# Altium footprint library XAL4030-332.PcbLib: 1 footprints
Each footprint in its own frame and in the unit in brackets; x right, y up, seen from the top. Pads: shape width x height; smd on the part's side, far side on the other; paste and mask are expansions set on the pad; w line width, h text height; cw(c..) or ccw(c..) is an arc to the next point about the centre after c.
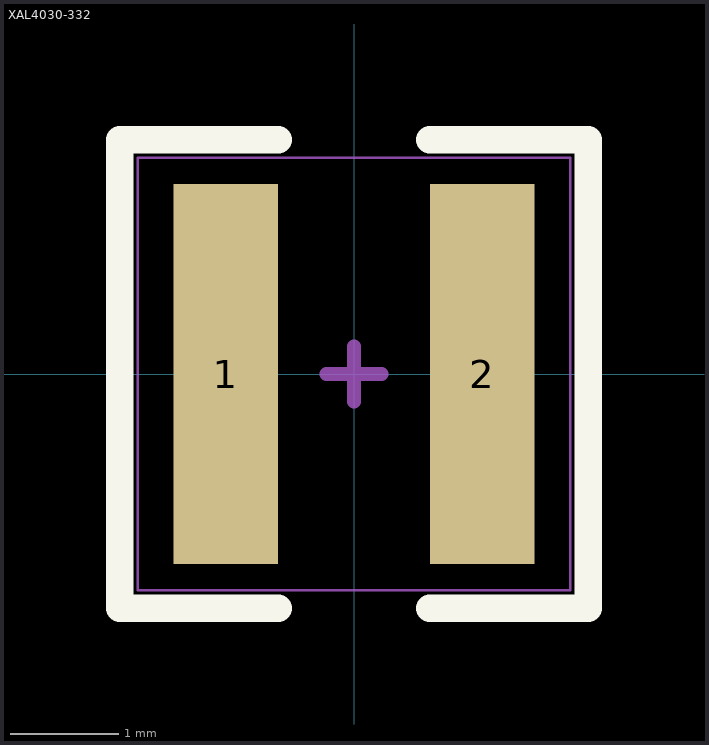
[diagram p0: the footprint, top view; thin cyan lines are the x and y axes]

## XAL4030-332 [mil] "Coilcraft High Temperature Shielded Power Inductors"
height 122
pads (2):
  rect 38x138 smd: 1(-46.5,0) 2(46.5,0)
Top Overlay:
  lines w10: -27.5,-85 -85,-85 -85,85 -27.5,85 ; 27.5,-85 85,-85 85,85 27.5,85
Mechanical 13:
  lines w5: -10,0 10,0 ; 0,-10 0,10
3D Body Top:
  lines w1: -78.5,-78.5 78.5,-78.5 78.5,78.5 -78.5,78.5 -78.5,-78.5
3D body "XAL4030.STEP": height 122.11, standoff 0.06, extent -84.64,-84.64 84.65,84.65